# Altium footprint library Microsxeme.PcbLib: 2 footprints
Each footprint in its own frame and in the unit in brackets; x right, y up, seen from the top. Pads: shape width x height; smd on the part's side, far side on the other; paste and mask are expansions set on the pad; w line width, h text height; cw(c..) or ccw(c..) is an arc to the next point about the centre after c.
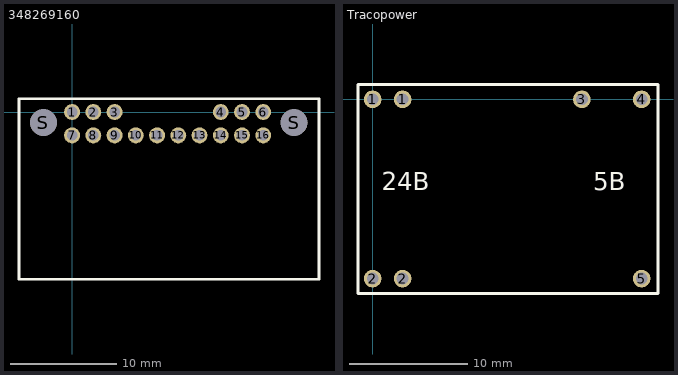
[diagram p0: the footprints below, top view; thin cyan lines are the x and y axes]

## 348269160 [mm] "Dual Row, 16 Circuit, Polarization Option A, 2.80mm Pin Length, Black, Tube"
pads (18):
  round 1.5 hole 1: 1(0,0) 2(2,0) 3(4,0) 4(14,0) 5(16,0) 6(18,0) 7(0,-2.2) 8(2,-2.2) 9(4,-2.2) 10(6,-2.2) 11(8,-2.2) 12(10,-2.2) 13(12,-2.2) 14(14,-2.2) 15(16,-2.2) 16(18,-2.2)
  round 2.5 hole 2.55: S(-2.7,-1) S(20.9,-1)
Top Overlay:
  lines w0.254: -5,-15.75 23.25,-15.75 23.25,1.25 -5,1.25 -5,-15.75
3D body "348269160.stp": height 12.58, standoff -3.3, extent -4.314,-18.7 22.314,0.8

## Tracopower [mm] "24V->5V 1000mA"
pads (7):
  round 1.5 hole 1: 1(0,0) 1(2.54,0) 2(0,-15.24) 2(2.54,-15.24) 3(17.78,0) 4(22.86,0) 5(22.86,-15.24)
Top Overlay:
  lines w0.254: -1.25,-16.5 24.25,-16.5 24.25,1.25 -1.25,1.25 -1.25,-16.5
  text "24B" at 0.754,-7.746 h1.52
  text "5B" at 18.754,-7.746 h1.52
3D body: height 10, standoff 0, extent -1.377,-16.627 24.377,1.377